# Altium footprint library OTHER.PCBLIB: 126 footprints (part 2 of 8)
Each footprint in its own frame and in the unit in brackets; x right, y up, seen from the top. Pads: shape width x height; smd on the part's side, far side on the other; paste and mask are expansions set on the pad; w line width, h text height; cw(c..) or ccw(c..) is an arc to the next point about the centre after c.
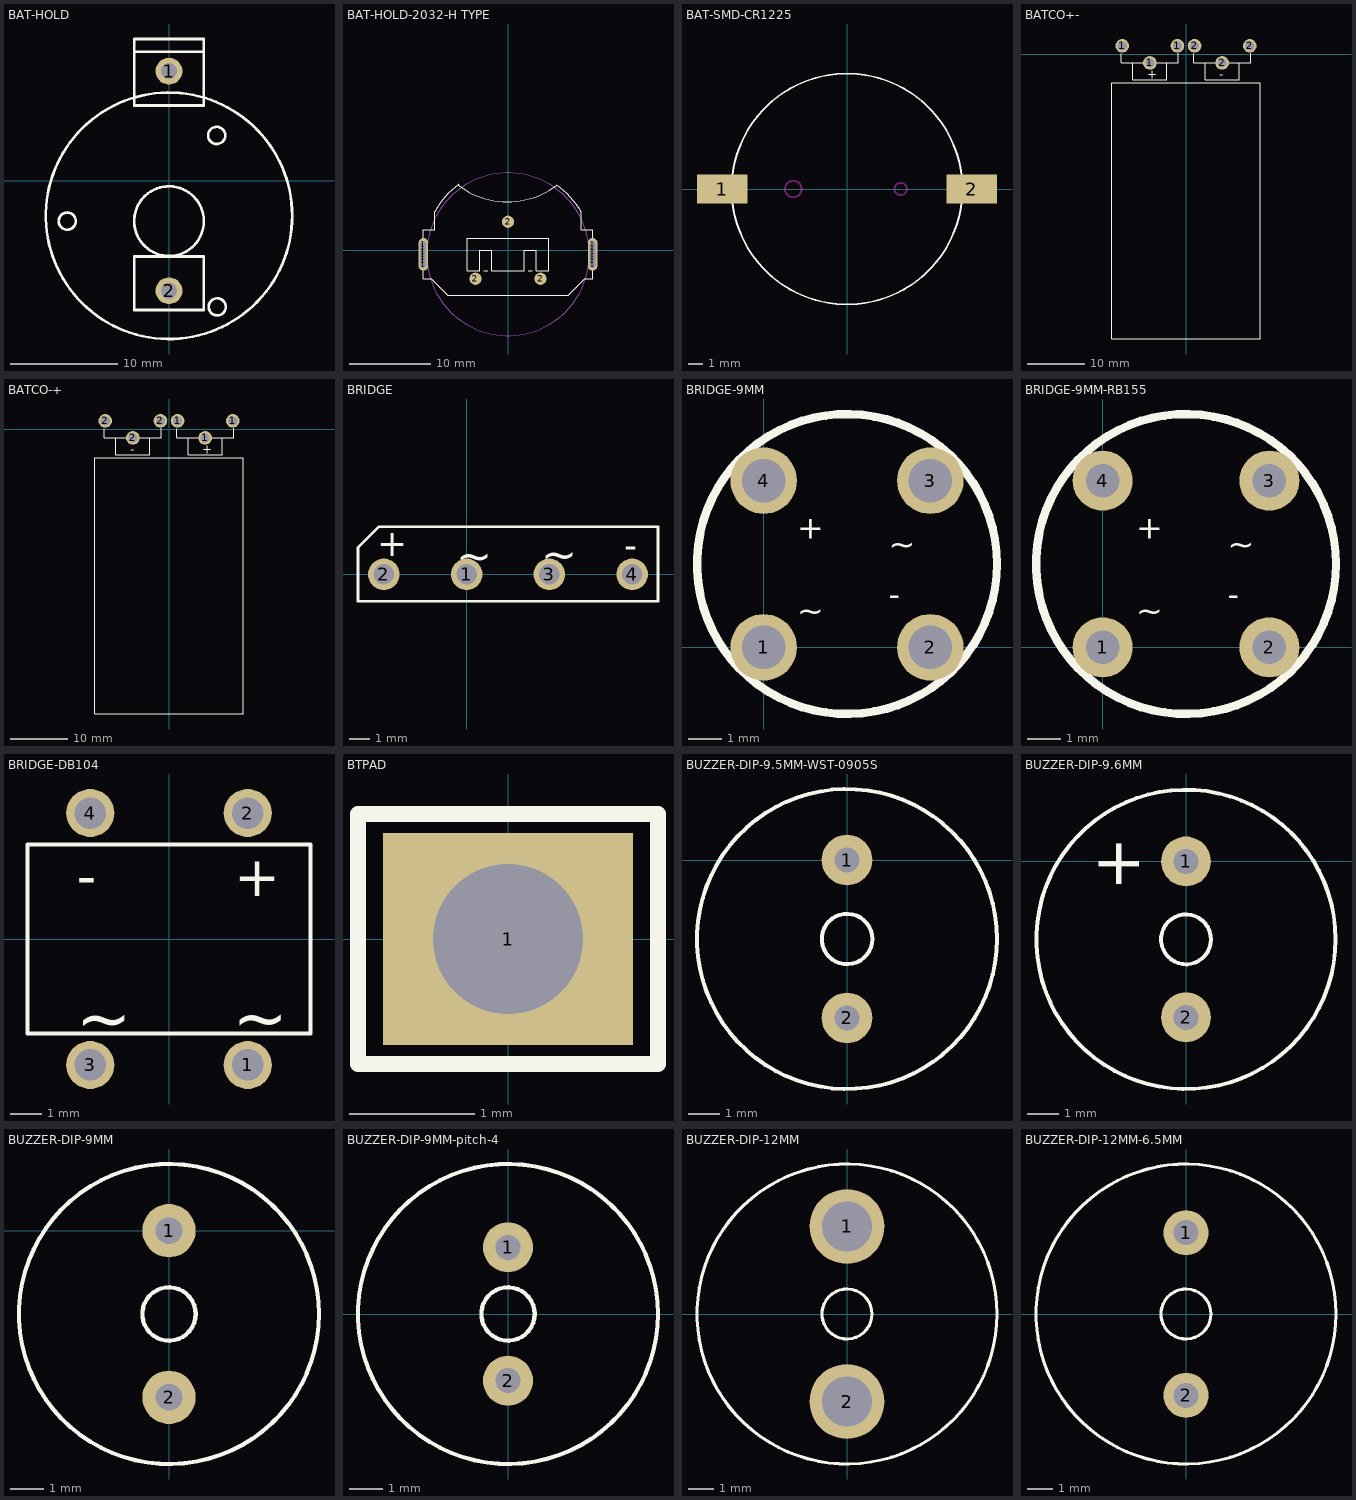
[diagram p1: the footprints below, top view; thin cyan lines are the x and y axes]

## BAT-HOLD [mm]
pads (2):
  round 2.5 hole 1.5: 1(0,10.25) 2(0,-10.25)
TopOverlay:
  circle w0.254: c-9.5,-3.75 r0.8
  circle w0.254: c4.5,-11.75 r0.8
  circle w0.254: c4.45,4.25 r0.8
  circle w0.254: c0,-3.25 r11.5
  circle w0.254: c0,-3.75 r3.25
  lines w0.254: -3.25,12.05 3.25,12.05 ; -3.25,-12.05 3.25,-12.05 3.25,-7.05 -3.25,-7.05 -3.25,-12.05 ; -3.25,7.05 -3.25,7.7 -3.25,13.25 3.25,13.25 3.25,7.7 3.25,7.05 -3.25,7.05

## BAT-HOLD-2032-H TYPE [mm]
pads (17):
  oval 1.2x1.5 hole 0.8: 1(-10.4,-1.75) 1(-10.4,-1.3) 1(-10.4,-0.9) 1(-10.4,-0.5) 1(-10.4,-0.1) 1(-10.4,0.3) 1(-10.4,0.75) 1(10.4,-1.75) 1(10.4,-1.3) 1(10.4,-0.9) 1(10.4,-0.5) 1(10.4,-0.1) 1(10.4,0.3) 1(10.4,0.75)
  round 1.5 smd: 2(-4,-3.5) 2(0,3.5) 2(4,-3.5)
TopOverlay:
  lines w0.127: -6.172,8.05 ccw(c-0.052,15.959) 5.998,7.996 cw(c0,-0.5) 8.983,4.74 ; -6.062,8.084 ccw(c0.091,-0.301) -9,4.75 -9,2.5 -10.4,2.5 -10.4,-3.5 -9.4,-3.5 -7.4,-5.5 7.4,-5.5 9.4,-3.5 10.4,-3.5 10.4,2.5 9,2.5 9,4.75 ; -3,-2.5 -2.5,-2.5 ; 2.5,-2.5 3,-2.5 ; -5,-2.5 -3.5,-2.5 -3.5,0 -2,0 -2,-2.5 2,-2.5 2,0 3.5,0 3.5,-2.5 5,-2.5 5,1.5 -5,1.5 -5,-2.5
Mechanical1:
  circle w0.127: c0,-0.5 r10

## BAT-SMD-CR1225 [mm] "BAT-SMD-CR1225"
pads (2):
  rect 3.5x2 smd: 1(-8.65,0) 2(8.65,0)
TopOverlay:
  circle w0.127: c0,0 r8
KeepOutLayer:
  circle w0.127: c3.725,0 r0.43
  circle w0.127: c-3.725,0 r0.575

## BATCO+- [mm]
pads (6):
  round 2.4 hole 1.6: 1(-11.2,1.5) 1(-6.35,-1.5) 1(-1.5,1.5) 2(1.5,1.5) 2(6.35,-1.5) 2(11.2,1.5)
TopOverlay:
  lines w0.2: -11.35,0.1 -11.35,-1.5 -1.35,-1.5 -1.35,0.2 ; -9.35,-1.5 -9.35,-4.5 -3.35,-4.5 -3.35,-1.5 ; 1.35,0.1 1.35,-1.5 11.35,-1.5 11.35,0.2 ; 3.35,-1.5 3.35,-4.5 9.35,-4.5 9.35,-1.5 ; -13,-50 -13,-5 13,-5 13,-50 -13,-50
  text "+" at -6.85,-4.3 h1.52
  text "-" at 5.85,-4.3 h1.52

## BATCO-+ [mm]
pads (6):
  round 2.4 hole 1.6: 1(1.5,1.5) 1(6.35,-1.5) 1(11.2,1.5) 2(-11.2,1.5) 2(-6.35,-1.5) 2(-1.5,1.5)
TopOverlay:
  lines w0.2: -11.35,0.1 -11.35,-1.5 -1.35,-1.5 -1.35,0.2 ; -9.35,-1.5 -9.35,-4.5 -3.35,-4.5 -3.35,-1.5 ; 1.35,0.1 1.35,-1.5 11.35,-1.5 11.35,0.2 ; 3.35,-1.5 3.35,-4.5 9.35,-4.5 9.35,-1.5 ; -13,-50 -13,-5 13,-5 13,-50 -13,-50
  text "-" at -6.85,-4.3 h1.52
  text "+" at 5.85,-4.3 h1.52

## BRIDGE [mil]
pads (4):
  round 60 hole 39.37: 1(0,0) 2(-157.48,0) 3(157.48,0) 4(314.96,0)
TopOverlay:
  lines w5: -206.69,-51.18 364.17,-51.18 364.17,90.55 -167.32,90.55 -206.69,51.18 -206.69,-51.18
  text "+" at -170.27,34.44 h50
  text "~" at 141.61,9.84 h60
  text "~" at -19.74,6.89 h60
  text "-" at 300.01,30.5 h50

## BRIDGE-9MM [mm]
pads (4):
  round 2 hole 1.3: 1(0,0) 2(5,0) 3(5,5) 4(0,5)
TopOverlay:
  circle w0.254: c2.5,2.5 r4.5
  text "+" at 1,3.25 h0.7
  text "-" at 3.75,1.25 h0.7
  text "~" at 1,0.75 h0.7
  text "~" at 3.75,2.75 h0.7

## BRIDGE-9MM-RB155 [mm]
pads (4):
  round 1.8 hole 1: 1(0,0) 2(5,0) 3(5,5) 4(0,5)
TopOverlay:
  circle w0.254: c2.5,2.5 r4.5
  text "+" at 1,3.25 h0.7
  text "-" at 3.75,1.25 h0.7
  text "~" at 1,0.75 h0.7
  text "~" at 3.75,2.75 h0.7

## BRIDGE-DB104 [mm]
pads (4):
  round 1.524 hole 1: 1(2.5,-4) 2(2.5,4) 3(-2.5,-4) 4(-2.5,4)
TopOverlay:
  lines w0.127: -4.5,-3 4.5,-3 4.5,3 -4.5,3 -4.5,-3
  text "+" at 2.075,1.35 h1.27
  text "-" at -2.925,1.375 h1.27
  text "~" at 2.025,-3.225 h1.52
  text "~" at -2.95,-3.25 h1.52

## BTPAD [mm]
pads (1):
  rect 2x1.7 hole 1.2: 1(0,0)
TopOverlay:
  lines w0.127: -1.2,-1 -1.2,1 1.2,1 1.2,-1 -1.2,-1

## BUZZER-DIP-9.5MM-WST-0905S [mm]
pads (2):
  round 1.6 hole 0.8: 1(0,0) 2(0,-5)
TopOverlay:
  circle w0.127: c0,-2.5 r4.75
  circle w0.127: c0,-2.5 r0.8

## BUZZER-DIP-9.6MM [mm] "BUZZER-DIP-9.6MM"
pads (2):
  round 1.6 hole 0.8: 1(0,0) 2(0,-5)
TopOverlay:
  circle w0.127: c0,-2.5 r4.8
  circle w0.127: c0,-2.5 r0.8
  text "+" at -1.5,0.8 h1.52

## BUZZER-DIP-9MM [mm]
pads (2):
  round 1.6 hole 0.8: 1(0,0) 2(0,-5)
TopOverlay:
  circle w0.127: c0,-2.5 r0.8
  circle w0.127: c0,-2.5 r4.5

## BUZZER-DIP-9MM-pitch-4 [mm] "BUZZER-DIP-9MM-pitch-4"
pads (2):
  round 1.5 hole 0.75: 1(0,2) 2(0,-2)
TopOverlay:
  circle w0.127: c0,0 r0.8
  circle w0.127: c0,0 r4.5

## BUZZER-DIP-12MM [mm]
pads (2):
  round 3 hole 2: 1(0,3.5) 2(0,-3.5)
TopOverlay:
  circle w0.127: c0,0 r6
  circle w0.127: c0,0 r1

## BUZZER-DIP-12MM-6.5MM [mm]
pads (2):
  round 1.8 hole 1: 1(0,3.25) 2(0,-3.25)
TopOverlay:
  circle w0.127: c0,0 r1
  circle w0.127: c0,0 r6